# EAGLE library part TEENSY2.0 (library SteelCaveRobotics-Boards)
Teensy 2.0
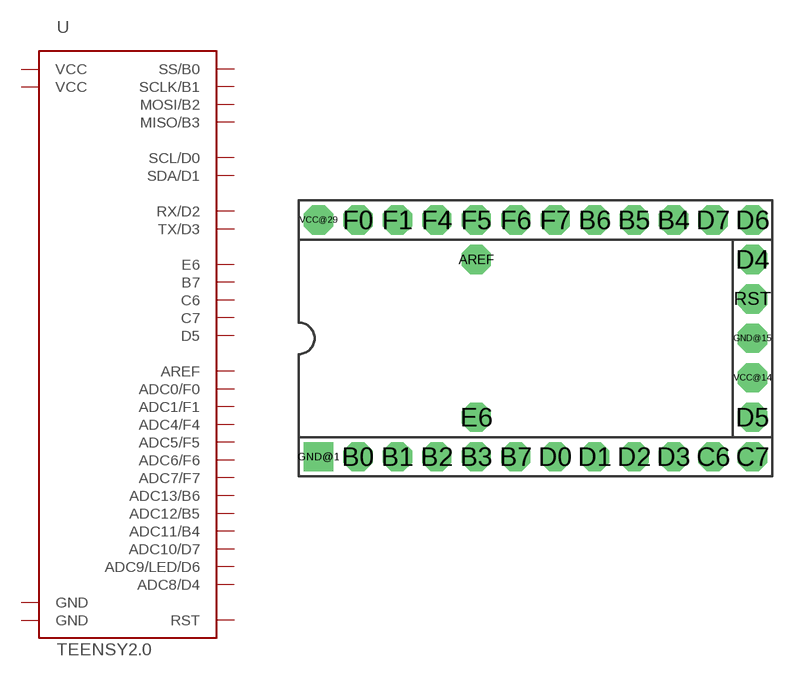
[diagram p0: symbol with the pads of TEENSY2.0; footprint TEENSY2.0]

Designator prefix -

## TEENSY2.0  [TEENSY2.0]
AREF  AREF
B0  SS/B0
B1  SCLK/B1
B2  MOSI/B2
B3  MISO/B3
B4  ADC11/B4
B5  ADC12/B5
B6  ADC13/B6
B7  B7
C6  C6
C7  C7
D0  SCL/D0
D1  SDA/D1
D2  RX/D2
D3  TX/D3
D4  ADC8/D4
D5  D5
D6  ADC9/LED/D6
D7  ADC10/D7
E6  E6
F0  ADC0/F0
F1  ADC1/F1
F4  ADC4/F4
F5  ADC5/F5
F6  ADC6/F6
F7  ADC7/F7
GND@1  GND  pwr
GND@15  GND  pwr
RST  RST
VCC@14  VCC  pwr
VCC@29  VCC  pwr

## Footprint TEENSY2.0 (pad centres in mm)
Teensy 2.0
drill 1.016 pad 1.88 octagon: AREF -3.81,5.08; B0 -11.43,-7.62; B1 -8.89,-7.62; B2 -6.35,-7.62; B3 -3.81,-7.62; B4 8.89,7.62; B5 6.35,7.62; B6 3.81,7.62; B7 -1.27,-7.62; C6 11.43,-7.62; C7 13.97,-7.62; D0 1.27,-7.62; D1 3.81,-7.62; D2 6.35,-7.62; D3 8.89,-7.62; D4 13.97,5.08; D5 13.97,-5.08; D6 13.97,7.62; D7 11.43,7.62; E6 -3.81,-5.08; F0 -11.43,7.62; F1 -8.89,7.62; F4 -6.35,7.62; F5 -3.81,7.62; F6 -1.27,7.62; F7 1.27,7.62; GND@15 13.97,0; RST 13.97,2.54; VCC@14 13.97,-2.54; VCC@29 -13.97,7.62
drill 1.016 pad 1.88 square: GND@1 -13.97,-7.62